# Altium integrated library Battery.IntLib: 1 symbol
Pins are listed as number, name and electrical type; pins without a type are passive.

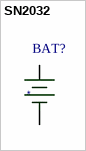
[diagram p0: symbol SN2032]

## SN2032
designator BAT?
footprint SN2032
pins: +, -